# EAGLE library part 2_8_PIN_CON (library 11_pin_connecterp)
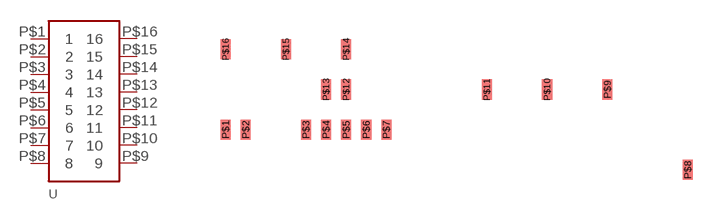
[diagram p3: symbol with the pads of 2_8_PIN; footprint 2_8_PIN]

Designator prefix -

## 2_8_PIN_CON  [2_8_PIN]
P$1  1
P$2  2
P$3  3
P$4  4
P$5  5
P$6  6
P$7  7
P$8  8
P$9  9
P$10  10
P$11  11
P$12  12
P$13  13
P$14  14
P$15  15
P$16  16

## Footprint 2_8_PIN (pad centres in mm)
smd 0.635 x 1.27: P$1 -2.54,0; P$2 -1.27,0; P$3 2.54,0; P$4 3.81,0; P$5 5.08,0; P$6 6.35,0; P$7 7.62,0; P$8 26.67,-2.54; P$9 21.59,2.54; P$10 17.78,2.54; P$11 13.97,2.54; P$12 5.08,2.54; P$13 3.81,2.54; P$14 5.08,5.08; P$15 1.27,5.08; P$16 -2.54,5.08